# Altium footprint library DOxx.PcbLib: 6 footprints
Each footprint in its own frame and in the unit in brackets; x right, y up, seen from the top. Pads: shape width x height; smd on the part's side, far side on the other; paste and mask are expansions set on the pad; w line width, h text height; cw(c..) or ccw(c..) is an arc to the next point about the centre after c.
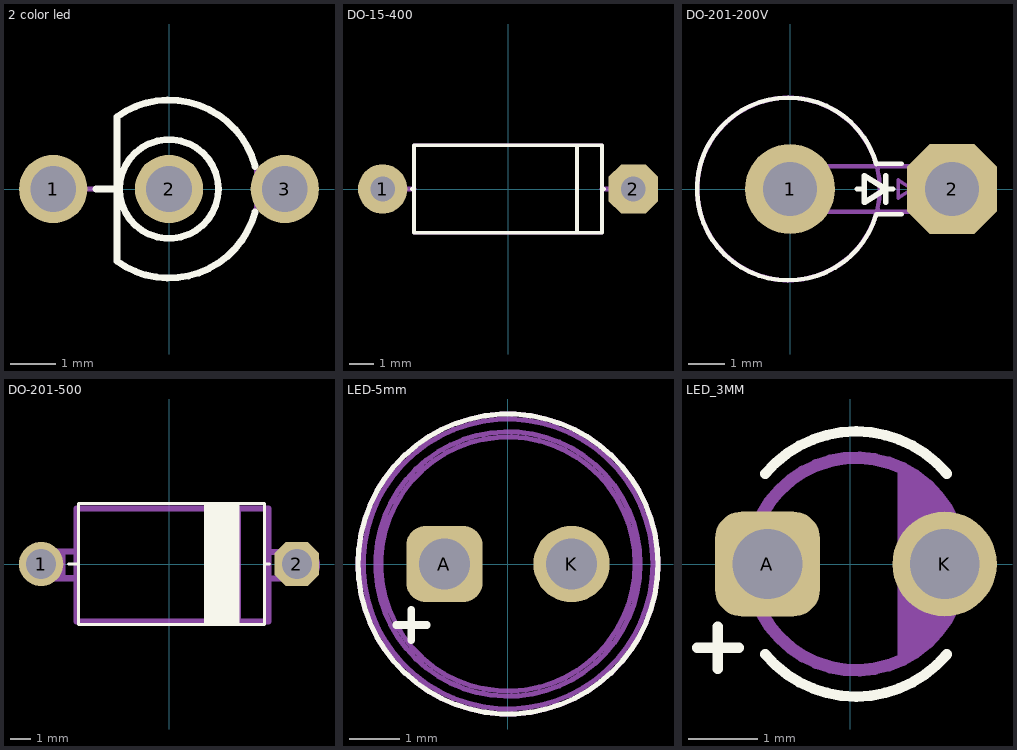
[diagram p0: the footprints below, top view; thin cyan lines are the x and y axes]

## 2 color led [mm]
pads (3):
  round 1.5 hole 1: 1(-2.54,0) 2(0,0) 3(2.54,0)
TopOverlay:
  circle w0.15: c0,0 r1.085
  lines w0.15: -1.6,0 -1.143,0 ; -1.144,-1.583 ccw(c0,0) 1.888,-0.5 ; -1.143,-1.583 -1.143,1.586 ; -1.14,1.586 cw(c0,0) 1.889,0.496
Top Assembly:
  circle w0.1: c0,0 r1.085
  lines w0.1: -2.286,0 -1.143,0 ; -1.143,-1.524 -1.143,1.524 ; -1.111,-1.606 ccw(c0,0) -1.111,1.606 ; 1.905,0 2.54,0
3D body "User Library-Lumex_SSL-LX3059IGW_BicolorLed.step": height 15, standoff -1.18, extent -2.794,-1.992 2.794,1.992

## DO-15-400 [mm]
pads (2):
  round 2 hole 1: 1(-5.08,0)
  oct 2x2 hole 1: 2(5.08,0)
TopOverlay:
  lines w0.15: -3.9,0 -3.81,0 ; 2.794,-1.778 2.794,1.778 ; 3.81,0 3.9,0 ; -3.81,-1.778 3.81,-1.778 3.81,1.778 -3.81,1.778 -3.81,-1.778
Top Assembly:
  circle w0.254: c5.08,0 r0.381
  circle w0.254: c-5.08,0 r0.381
  lines w0.125: 2.794,-1.778 2.794,1.778 ; -3.81,-1.778 -3.81,1.778 3.81,1.778 3.81,-1.778 -3.81,-1.778
  lines w0.2: -4.572,0 -3.81,0 ; 3.81,0 4.572,0
3D body "DO-15-400.STEP": height 4.78, standoff -1, extent -5.51,-1.782 5.51,1.783

## DO-201-200V [mm]
pads (2):
  round 2.5 hole 1.5: 1(0,0)
  oct 2.5x2.5 hole 1.5: 2(4.5,0)
TopOverlay:
  lines w0.125: 2.397,-0.699 cw(c-0.045,0) 2.399,0.692 ; 2.4,-0.7 3.1,-0.7 ; 2.4,0.7 3.1,0.7
  lines w0.15: 1.86,0 2.06,0 ; 2.06,-0.371 2.06,0.376 2.66,0 ; 2.065,-0.376 2.66,0 ; 2.66,-0.373 2.66,0.373 ; 2.86,0 2.66,0
Top Assembly:
  circle w0.125: c-0.045,0 r2.535
  lines w0.1: 3.389,-0.254 3.389,0.254 ; 3.008,-0.254 3.389,0 3.008,0.254 3.008,-0.254
  lines w0.125: 4.913,-0.635 ccw(c4.913,0) 4.913,0.635 ; 5.04,-0.635 -0.04,-0.635 cw(c-0.04,0) -0.04,0.635 5.04,0.635
3D body "DO-201-200 Ver.STEP": height 11.55, standoff -1.55, extent -2.84,-2.8 5.64,2.8

## DO-201-500 [mm]
pads (2):
  round 2.2 hole 1.5: 1(-6.35,0)
  oct 2.2x2.2 hole 1.5: 2(6.35,0)
TopOverlay:
  region: 1.75,3 3.5,3 3.5,-3 1.75,-3
  lines w0.15: -5,0 -4.5,0 ; 1.925,-2.794 1.925,2.794 ; 3.425,-2.794 3.425,2.794 ; 4.826,0 5,0 ; -4.5,-3 -4.5,3 4.75,3 4.75,-3 -4.5,-3
Top Assembly:
  lines w0.3: -6.3,-0.707 -5.294,-0.707 ; -6.294,-0.707 cw(c-6.294,-0.047) -6.294,0.613 ; -6.2,0.613 -5.294,0.613 ; -5.294,0.612 -5.294,-0.047 -5.294,-0.707 ; -4.594,-0.707 -5.294,-0.707 ; -4.594,0.613 -5.294,0.613 ; 4.994,-0.713 5.694,-0.713 ; 4.994,0.607 5.694,0.607 ; 6.6,-0.713 5.694,-0.713 ; 6.694,-0.713 ccw(c6.694,-0.053) 6.694,0.607 ; 6.7,0.607 5.694,0.607 ; -5.294,-0.707 -5.294,0.613 ; 1.936,-2.847 3.436,-2.847 ; 1.936,-2.847 -4.594,-2.847 -4.594,2.753 1.936,2.753 ; 1.936,-2.847 1.936,2.753 ; 1.936,2.753 3.436,2.753 ; 3.436,-2.847 4.936,-2.847 4.936,2.753 3.436,2.753 ; 3.436,-2.847 3.436,2.753 ; 5.694,-0.712 5.694,-0.053 5.694,0.607 ; 5.694,-0.713 5.694,0.607
3D body "DO-201-500.STEP": height 5.82, standoff -3, extent -7,-2.825 7,2.825

## LED-5mm [mm]
pads (2):
  rrect50% 1.5x1.5 hole 1: A(-1.25,0)
  round 1.5 hole 1: K(1.25,0)
TopOverlay:
  circle w0.1: c0,0 r2.95
  lines w0.15: -2.2,-1.2 -1.6,-1.2 ; -1.9,-1.5 -1.9,-0.9
Top Assembly:
  circle w0.1: c0,0 r2.95
  circle w0.1: c0,0 r2.85
  circle w0.1: c0,0 r2.6
  circle w0.1: c0,0 r2.5
3D body "User Library-LED5MM.SLDPRT": height 12.6, standoff -3, extent -2.95,-2.95 2.95,2.95

## LED_3MM [mm]
pads (2):
  rrect50% 1.5x1.5 hole 1: A(-1.19,0)
  round 1.5 hole 1: K(1.35,0)
TopOverlay:
  lines w0.15: -2.2,-1.2 -1.6,-1.2 ; -1.9,-1.5 -1.9,-0.9 ; -1.223,-1.293 ccw(c0.08,-0.2) 1.383,-1.293 ; -1.223,1.293 cw(c0.08,0.2) 1.383,1.293
Top Assembly:
  circle w0.178: c0.08,0 r1.524
  region: 0.68,1.4 0.68,-1.4 0.88,-1.3 1.08,-1.1 1.18,-1 1.48,-0.6 1.58,-0.3 1.58,0.2 1.48,0.5 1.38,0.7 1.28,0.9 1.08,1.1 0.88,1.3
3D body "User Library-Led round 3 mm Kingbright.step": height 29.6, standoff -2, extent -1.5,-1.6 1.7,1.6